# Altium footprint library IDO-SOM2D01-PACKAGE.PcbLib: 1 footprints
Each footprint in its own frame and in the unit in brackets; x right, y up, seen from the top. Pads: shape width x height; smd on the part's side, far side on the other; paste and mask are expansions set on the pad; w line width, h text height; cw(c..) or ccw(c..) is an arc to the next point about the centre after c.
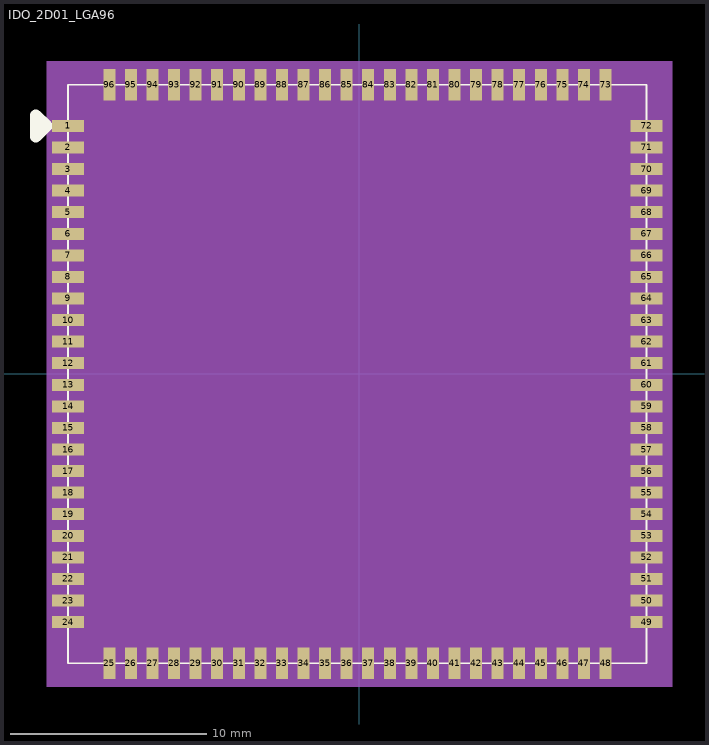
[diagram p0: the footprint, top view; thin cyan lines are the x and y axes]

## IDO_2D01_LGA96 [mil] "IDO_2D01_LGA96"
pads (96):
  rect 64x24 smd: 1(-584.65,498.03) 2(-584.65,454.72) 3(-584.65,411.42) 4(-584.65,368.11) 5(-584.65,324.8) 6(-584.65,281.5) 7(-584.65,238.19) 8(-584.65,194.88) 9(-584.65,151.57) 10(-584.65,108.27) 11(-584.65,64.96) 12(-584.65,21.65) 13(-584.65,-21.65) 14(-584.65,-64.96) 15(-584.65,-108.27) 16(-584.65,-151.57) 17(-584.65,-194.88) 18(-584.65,-238.19) 19(-584.65,-281.5) 20(-584.65,-324.8) 21(-584.65,-368.11) 22(-584.65,-411.42) 23(-584.65,-454.73) 24(-584.65,-498.03) 49(576.77,-498.03) 50(576.77,-454.73) 51(576.77,-411.42) 52(576.77,-368.11) 53(576.77,-324.8) 54(576.77,-281.5) 55(576.77,-238.19) 56(576.77,-194.88) 57(576.77,-151.57) 58(576.77,-108.27) 59(576.77,-64.96) 60(576.77,-21.65) 61(576.77,21.65) 62(576.77,64.96) 63(576.77,108.27) 64(576.77,151.57) 65(576.77,194.88) 66(576.77,238.19) 67(576.77,281.5) 68(576.77,324.8) 69(576.77,368.11) 70(576.77,411.42) 71(576.77,454.72) 72(576.77,498.03)
  rect 24x64 smd: 25(-501.97,-580.71) 26(-458.66,-580.71) 27(-415.36,-580.71) 28(-372.05,-580.71) 29(-328.74,-580.71) 30(-285.43,-580.71) 31(-242.13,-580.71) 32(-198.82,-580.71) 33(-155.51,-580.71) 34(-112.2,-580.71) 35(-68.9,-580.71) 36(-25.59,-580.71) 37(17.72,-580.71) 38(61.02,-580.71) 39(104.33,-580.71) 40(147.64,-580.71) 41(190.94,-580.71) 42(234.25,-580.71) 43(277.56,-580.71) 44(320.87,-580.71) 45(364.17,-580.71) 46(407.48,-580.71) 47(450.79,-580.71) 48(494.09,-580.71) 73(494.09,580.71) 74(450.79,580.71) 75(407.48,580.71) 76(364.17,580.71) 77(320.87,580.71) 78(277.56,580.71) 79(234.25,580.71) 80(190.94,580.71) 81(147.64,580.71) 82(104.33,580.71) 83(61.02,580.71) 84(17.72,580.71) 85(-25.59,580.71) 86(-68.9,580.71) 87(-112.2,580.71) 88(-155.51,580.71) 89(-198.82,580.71) 90(-242.13,580.71) 91(-285.43,580.71) 92(-328.74,580.71) 93(-372.05,580.71) 94(-415.36,580.71) 95(-458.66,580.71) 96(-501.97,580.71)
Top Overlay:
  lines w3.94: -584.65,-580.71 -584.65,580.71 576.77,580.71 576.77,-580.71 -584.65,-580.71
  lines w23.62: -649.61,476.38 -649.61,519.68 -627.95,498.03 -649.61,476.38
  text ".Designator" at -264.65,637.34 h28
Mechanical 7:
  region: -627.95,627.95 -627.95,-627.95 627.95,-627.95 627.95,627.95
Mechanical 8:
  text "7" at -604.65,238.19 h25
  text "8" at -604.65,194.88 h25
  text "9" at -604.65,151.57 h25
  text "10" at -624.65,108.27 h25
  text "11" at -624.65,64.96 h25
  text "15" at -624.65,-108.27 h25
  text "16" at -624.65,-151.57 h25
  text "17" at -624.65,-194.88 h25
  text "18" at -624.65,-238.19 h25
  text "19" at -624.65,-281.5 h25
  text "20" at -624.65,-324.8 h25
  text "21" at -624.65,-368.11 h25
  text "23" at -624.65,-454.73 h25
  text "24" at -624.65,-498.03 h25
  text "12" at -624.65,21.65 h25
  text "6" at -604.65,281.5 h25
  text "5" at -604.65,324.8 h25
  text "14" at -624.65,-64.96 h25
  text "75" at 371.42,584.64 h25
  text "74" at 414.72,584.64 h25
  text "62" at 544.64,64.96 h25
  text "63" at 544.64,108.27 h25
  text "64" at 544.64,151.57 h25
  text "65" at 544.64,194.88 h25
  text "22" at -624.65,-411.42 h25
  text "1" at -604.65,498.03 h25
  text "48" at 458.03,-584.65 h25
  text "47" at 414.72,-584.65 h25
  text "46" at 371.42,-584.65 h25
  text "45" at 328.11,-584.65 h25
  text "44" at 284.8,-584.65 h25
  text "43" at 241.5,-584.65 h25
  text "41" at 154.88,-584.65 h25
  text "40" at 111.57,-584.65 h25
  text "39" at 68.27,-584.65 h25
  text "38" at 24.96,-584.65 h25
  text "37" at -18.35,-584.65 h25
  text "36" at -61.65,-584.65 h25
  text "33" at -191.57,-584.65 h25
  text "32" at -234.88,-584.65 h25
  text "31" at -278.19,-584.65 h25
  text "28" at -408.11,-584.65 h25
  text "27" at -451.42,-584.65 h25
  text "26" at -494.73,-584.65 h25
  text "25" at -538.03,-584.65 h25
  text "76" at 328.11,584.64 h25
  text "77" at 284.8,584.64 h25
  text "78" at 241.5,584.64 h25
  text "79" at 198.19,584.64 h25
  text "81" at 111.57,584.64 h25
  text "82" at 68.27,584.64 h25
  text "83" at 24.96,584.64 h25
  text "84" at -18.35,584.64 h25
  text "86" at -104.96,584.64 h25
  text "89" at -234.88,584.64 h25
  text "91" at -321.5,584.64 h25
  text "92" at -364.8,584.64 h25
  text "94" at -451.42,584.64 h25
  text "49" at 544.64,-498.03 h25
  text "50" at 544.64,-454.73 h25
  text "51" at 544.64,-411.42 h25
  text "52" at 544.64,-368.11 h25
  text "54" at 544.64,-281.5 h25
  text "55" at 544.64,-238.19 h25
  text "56" at 544.64,-194.88 h25
  text "57" at 544.64,-151.57 h25
  text "58" at 544.64,-108.27 h25
  text "59" at 544.64,-64.96 h25
  text "60" at 544.64,-21.65 h25
  text "61" at 544.64,21.65 h25
  text "67" at 544.64,281.5 h25
  text "30" at -321.5,-584.65 h25
  text "29" at -364.8,-584.65 h25
  text "34" at -148.27,-584.65 h25
  text "72" at 544.64,498.03 h25
  text "73" at 458.03,584.64 h25
  text "68" at 544.64,324.8 h25
  text "69" at 544.64,368.11 h25
  text "71" at 544.64,454.72 h25
  text "70" at 544.64,411.42 h25
  text "88" at -191.57,584.64 h25
  text "93" at -408.11,584.64 h25
  text "3" at -604.65,411.42 h25
  text "96" at -538.03,584.64 h25
  text "87" at -148.27,584.64 h25
  text "13" at -624.65,-21.65 h25
  text "4" at -604.65,368.11 h25
  text "80" at 154.88,584.64 h25
  text "90" at -278.19,584.64 h25
  text "95" at -494.73,584.64 h25
  text "35" at -104.96,-584.65 h25
  text "42" at 198.19,-584.65 h25
  text "53" at 544.64,-324.8 h25
  text "66" at 544.64,238.19 h25
  text "85" at -61.65,584.64 h25
  text "2" at -604.65,454.72 h25
Mechanical 9:
  lines w3.94: -584.65,-580.71 -584.65,580.71 576.77,580.71 576.77,-580.71 -584.65,-580.71
3D body: height 150, standoff 0, extent -627.95,-627.95 627.95,627.95